# Altium footprint library RC.PcbLib: 47 footprints (part 1 of 3)
Each footprint in its own frame and in the unit in brackets; x right, y up, seen from the top. Pads: shape width x height; smd on the part's side, far side on the other; paste and mask are expansions set on the pad; w line width, h text height; cw(c..) or ccw(c..) is an arc to the next point about the centre after c.
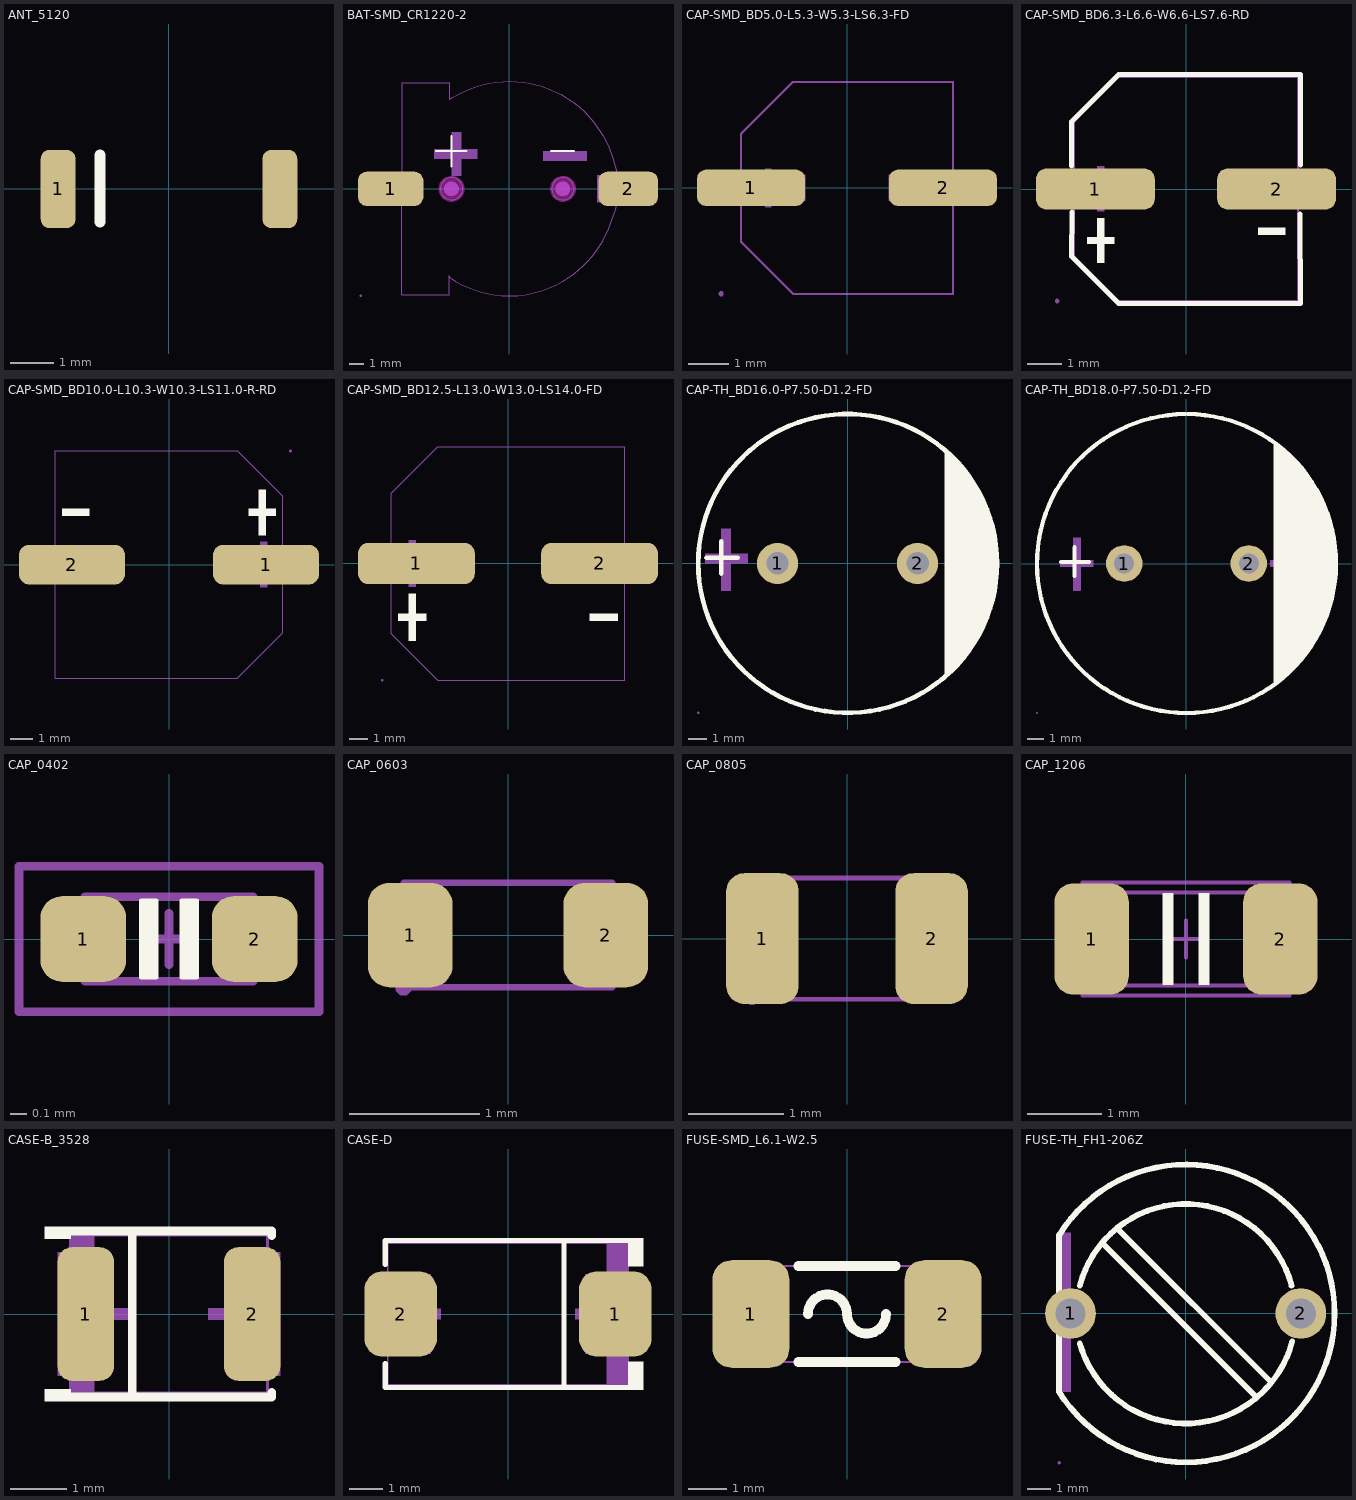
[diagram p0: the footprints below, top view; thin cyan lines are the x and y axes]

## ANT_5120 [mm] "5120贴片陶瓷天线"
height 4.3
pads (2):
  rrect50% 0.8x1.8 smd: 1(-2.54,0) ""(2.563,0)
Top Overlay:
  lines w0.254: -1.575,-0.762 -1.575,0.787
3D body "123.stp": height 1.32, standoff -0.01, extent -2.573,-0.911 2.542,0.935

## BAT-SMD_CR1220-2 [mm]
pads (2):
  rrect50% 4.4x2.3 smd paste+0 mask+0.05: 1(-8,0)
  rrect50% 4x2.3 smd paste+0 mask+0.05: 2(8,0)
Top Overlay:
  lines w0.15: -4.928,2.54 -2.896,2.54 ; -3.912,1.524 -3.912,3.556 ; 2.819,2.54 4.343,2.54
Keep-Out Layer:
  board cut-out: -3.15,0 -3.151,0.098 -3.204,0.287 -3.303,0.456 -3.442,0.594 -3.612,0.691 -3.802,0.741 -3.998,0.741 -4.187,0.691 -4.357,0.594 -4.497,0.456 -4.596,0.287 -4.649,0.098 -4.65,0 -4.649,-0.098 -4.596,-0.287 -4.497,-0.456 -4.357,-0.594 -4.187,-0.691 -3.998,-0.741 -3.802,-0.741 -3.612,-0.691 -3.442,-0.594 -3.303,-0.456 -3.204,-0.287 -3.151,-0.098 -3.15,0
  board cut-out: 4.35,0 4.349,0.098 4.296,0.287 4.197,0.456 4.058,0.594 3.887,0.691 3.698,0.741 3.502,0.741 3.313,0.691 3.142,0.594 3.003,0.456 2.904,0.287 2.851,0.098 2.85,0 2.851,-0.098 2.904,-0.287 3.003,-0.456 3.142,-0.594 3.313,-0.691 3.502,-0.741 3.698,-0.741 3.887,-0.691 4.058,-0.594 4.197,-0.456 4.296,-0.287 4.349,-0.098 4.35,0
Mechanical 1:
  circle w0.025: c-3.9,0 r0.75
  circle w0.025: c3.6,0 r0.75
Mechanical 6:
  circle w0.5: c-3.912,0 r0.25
  circle w0.5: c3.581,0 r0.25
  region: 2.271,2.516 5.192,2.516 5.192,1.881 2.271,1.881
  region: -3.898,0.873 -3.898,3.794 -3.263,3.794 -3.263,0.873
  region: -5.08,2.667 -2.159,2.667 -2.159,2.032 -5.08,2.032
Mechanical 15:
  region: -10.02,0.9 -6.62,0.9 -6.62,-0.9 -10.02,-0.9
  region: 9.32,-0.9 5.92,-0.9 5.92,0.9 9.32,0.9
  region: -9.96,-7.206 -9.96,-7.181 -9.995,-7.146 -10.045,-7.146 -10.08,-7.181 -10.08,-7.206 -10.08,-7.231 -10.045,-7.266 -9.995,-7.266 -9.96,-7.231 -9.96,-7.206
  lines w0.051: -7.227,7.142 -7.227,-0.511 -7.239,-0.523 -7.239,-7.127 -4.064,-7.127 -4.064,-5.857 -4.04,-5.967 -3.896,-6.049 -3.645,-6.212 -3.131,-6.487 -2.614,-6.711 -2.092,-6.898 -1.568,-7.029 -1.045,-7.132 -0.521,-7.188 0.003,-7.206 0.544,-7.183 1.092,-7.119 2.165,-6.879 3.118,-6.481 3.59,-6.24 4.033,-5.951 4.359,-5.715 4.665,-5.454 4.979,-5.172 5.277,-4.874 5.559,-4.55 5.813,-4.226 6.281,-3.543 6.681,-2.672 6.986,-1.838 7.156,-1.399 7.258,-0.92 7.334,-0.461 7.382,-0.006 7.344,0.515 7.241,1.031 6.938,2.064 6.671,2.831 6.281,3.597 5.711,4.465 5.066,5.174 4.691,5.512 4.304,5.829 3.437,6.38 2.616,6.754 2.202,6.897 1.772,7.015 1.359,7.11 0.92,7.185 0.047,7.243 -0.43,7.221 -0.913,7.183 -1.372,7.108 -1.822,7.001 -2.26,6.874 -2.705,6.719 -3.533,6.328 -3.737,6.213 -3.892,6.12 -4.034,6.026 -4.029,6.158 -4.029,7.138 -4.025,7.143 -7.227,7.143 ; -7.227,7.142 -7.227,7.143
Multi-Layer keep-out:
  circle w0.254: c-3.9,0 r0.75
  circle w0.254: c3.6,0 r0.75

## CAP-SMD_BD5.0-L5.3-W5.3-LS6.3-FD [mm]
pads (2):
  rrect50% 2.7x0.91 smd: 1(-2.4,0) 2(2.4,0)
Mechanical 6:
  region: 2.256,0.072 2.256,-0.072 1.68,-0.072 1.68,0.072
  region: -2.256,0.072 -2.256,-0.072 -1.68,-0.072 -1.68,0.072
  region: -2.04,0.48 -2.04,-0.48 -1.896,-0.48 -1.896,0.48
Mechanical 15:
  region: -3.09,-2.65 -3.09,-2.625 -3.125,-2.59 -3.175,-2.59 -3.21,-2.625 -3.21,-2.65 -3.21,-2.675 -3.175,-2.71 -3.125,-2.71 -3.09,-2.675 -3.09,-2.65
  region: -3.15,0.325 -1.05,0.325 -1.05,-0.325 -3.15,-0.325
  region: 3.15,-0.325 1.05,-0.325 1.05,0.325 3.15,0.325
  lines w0.051: -2.65,-1.35 -1.35,-2.65 2.65,-2.65 2.65,2.65 -1.35,2.65 -2.65,1.35 -2.65,-1.35
3D body "CP_Elec_5x5.4.step": height 5.4, standoff 0, extent -3.25,-2.65 3.25,2.65

## CAP-SMD_BD6.3-L6.6-W6.6-LS7.6-RD [mm]
pads (2):
  rrect50% 3.5x1.2 smd paste+0 mask+0.051: 1(-2.67,0) 2(2.67,0)
Top Overlay:
  region: -2.614,-0.858 -2.614,-2.178 -2.416,-2.178 -2.416,-0.858
  region: -2.911,-1.419 -2.911,-1.617 -2.119,-1.617 -2.119,-1.419
  region: 2.921,-1.143 2.921,-1.341 2.129,-1.341 2.129,-1.143
  lines w0.152: -3.376,0.686 -3.376,1.98 -1.98,3.376 3.376,3.376 3.369,0.708 ; -3.362,-0.686 -3.376,-1.981 -1.981,-3.376 3.376,-3.376 3.356,-0.739
Mechanical 6:
  region: -2.41,-0.654 -2.41,0.666 -2.608,0.666 -2.608,-0.654
  region: -1.88,0.099 -3.2,0.099 -3.2,-0.099 -1.88,-0.099
  region: 2.848,0.099 2.848,-0.099 2.056,-0.099 2.056,0.099
Mechanical 15:
  region: 1.4,0.325 3.8,0.325 3.8,-0.325 1.4,-0.325
  region: -3.8,0.325 -1.4,0.325 -1.4,-0.325 -3.8,-0.325
  region: -3.74,-3.3 -3.74,-3.275 -3.775,-3.24 -3.825,-3.24 -3.86,-3.275 -3.86,-3.3 -3.86,-3.325 -3.825,-3.36 -3.775,-3.36 -3.74,-3.325 -3.74,-3.3
  lines w0.051: -3.3,-1.98 -3.3,1.98 -1.98,3.3 3.3,3.3 3.3,-3.3 -1.98,-3.3 -3.3,-1.98

## CAP-SMD_BD10.0-L10.3-W10.3-LS11.0-R-RD [mm]
pads (2):
  rrect50% 4.8x1.8 smd: 1(4.395,0) 2(-4.395,0)
Top Overlay:
  region: 4.378,1.339 4.378,3.399 4.068,3.399 4.068,1.339
  region: 4.841,2.214 4.841,2.523 3.605,2.523 3.605,2.214
  region: -4.841,2.214 -4.841,2.523 -3.605,2.523 -3.605,2.214
Mechanical 6:
  region: 4.445,-1.016 4.445,1.044 4.136,1.044 4.136,-1.016
  region: 4.953,-0.127 4.953,0.182 3.717,0.182 3.717,-0.127
  region: -4.841,-0.155 -4.841,0.155 -3.605,0.155 -3.605,-0.155
Mechanical 15:
  region: 5.5,-0.5 5.5,0.5 2.35,0.5 2.35,-0.5
  region: -5.5,-0.5 -5.5,0.5 -2.35,0.5 -2.35,-0.5
  region: 5.56,5.15 5.56,5.175 5.525,5.21 5.475,5.21 5.44,5.175 5.44,5.15 5.44,5.125 5.475,5.09 5.525,5.09 5.56,5.125 5.56,5.15
  lines w0.051: -5.15,-5.15 3.09,-5.15 5.15,-3.09 5.15,3.09 3.09,5.15 -5.15,5.15 -5.15,-5.15
3D body "CP_Elec_10x10.5.step": height 10.5, standoff 0, extent -6,-5.15 6,5.15

## CAP-SMD_BD12.5-L13.0-W13.0-LS14.0-FD [mm]
pads (2):
  rrect50% 6.5x2.3 smd: 1(-5.1,0) 2(5.1,0)
Top Overlay:
  region: 6.11,-2.795 6.11,-3.185 4.55,-3.185 4.55,-2.795
  region: -6.11,-2.795 -6.11,-3.185 -4.55,-3.185 -4.55,-2.795
  region: -5.525,-1.69 -5.525,-4.29 -5.135,-4.29 -5.135,-1.69
Mechanical 6:
  region: 6.11,0.195 6.11,-0.195 4.55,-0.195 4.55,0.195
  region: -6.11,0.195 -6.11,-0.195 -4.55,-0.195 -4.55,0.195
  region: -5.525,1.3 -5.525,-1.3 -5.135,-1.3 -5.135,1.3
Mechanical 15:
  region: -7,0.475 -2.3,0.475 -2.3,-0.475 -7,-0.475
  region: 2.3,0.475 7,0.475 7,-0.475 2.3,-0.475
  region: -6.94,-6.5 -6.94,-6.475 -6.975,-6.44 -7.025,-6.44 -7.06,-6.475 -7.06,-6.5 -7.06,-6.525 -7.025,-6.56 -6.975,-6.56 -6.94,-6.525 -6.94,-6.5
  lines w0.051: -6.5,-3.9 -6.5,3.9 -3.9,6.5 6.5,6.5 6.5,-6.5 -3.9,-6.5 -6.5,-3.9
3D body "CAP1.step": height 13.5, standoff 0, extent -6.873,-6.475 7.127,6.525

## CAP-TH_BD16.0-P7.50-D1.2-FD [mm]
pads (2):
  round 2.2 hole 1.2: 1(-3.75,0) 2(3.75,0)
Top Overlay:
  circle w0.254: c0,0 r8
  region: 5.207,-6.096 5.535,-5.814 6.126,-5.182 6.646,-4.49 7.089,-3.746 7.449,-2.96 7.724,-2.139 7.908,-1.293 8.001,-0.433 8.001,0.433 7.908,1.293 7.724,2.139 7.449,2.96 7.089,3.746 6.646,4.49 6.126,5.182 5.535,5.814 5.207,6.096
  lines w0.254: -7.553,0.305 -5.877,0.305 ; -6.766,-0.533 -6.766,1.194
Mechanical 6:
  region: 7.7,-0.2 5.414,-0.2 5.414,0.308 7.7,0.308
  region: -6.754,1.851 -6.246,1.851 -6.246,-1.451 -6.754,-1.451
  region: -7.62,0.508 -5.334,0.508 -5.334,0 -7.62,0
Mechanical 15:
  region: -3.35,0 -3.35,0.08 -3.411,0.227 -3.523,0.339 -3.67,0.4 -3.829,0.4 -3.976,0.339 -4.089,0.227 -4.15,0.08 -4.15,0 -4.15,-0.08 -4.089,-0.227 -3.976,-0.339 -3.829,-0.4 -3.67,-0.4 -3.523,-0.339 -3.411,-0.227 -3.35,-0.08 -3.35,0
  region: 4.15,0 4.15,0.08 4.089,0.227 3.976,0.339 3.829,0.4 3.67,0.4 3.523,0.339 3.411,0.227 3.35,0.08 3.35,0 3.35,-0.08 3.411,-0.227 3.523,-0.339 3.67,-0.4 3.829,-0.4 3.976,-0.339 4.089,-0.227 4.15,-0.08 4.15,0
  region: -7.94,-8 -7.94,-7.975 -7.975,-7.94 -8.025,-7.94 -8.06,-7.975 -8.06,-8 -8.06,-8.025 -8.025,-8.06 -7.975,-8.06 -7.94,-8.025 -7.94,-8
  lines w0.051: -8,0 ccw(c0,0) 8,0 ccw(c0,0) -8,0
3D body "1000uF 50V electr 16 x26mm -P.diameter 8mm-Black-White.stp": height 26, standoff -4.1, extent -8,-7.999 8,7.999

## CAP-TH_BD18.0-P7.50-D1.2-FD [mm]
pads (2):
  round 2.2 hole 1.2: 1(-3.75,0) 2(3.75,0)
Top Overlay:
  region: 5.25,-7.25 5.596,-7.005 6.239,-6.451 6.826,-5.838 7.352,-5.171 7.812,-4.458 8.202,-3.704 8.518,-2.917 8.758,-2.103 8.919,-1.269 9,-0.424 9,0.424 8.919,1.269 8.758,2.103 8.518,2.917 8.202,3.704 7.812,4.458 7.352,5.171 6.826,5.838 6.239,6.451 5.596,7.005 5.25,7.25
  lines w0.254: -7.537,0.088 -5.861,0.088 ; -6.75,-0.75 -6.75,0.977 ; -0.079,8.999 ccw(c0,0) 0.079,8.999
Mechanical 6:
  region: 5.05,0.2 7.2,0.2 7.2,-0.2 5.05,-0.2
  region: -6.825,1.55 -6.375,1.55 -6.375,-1.6 -6.375,-1.61 -6.383,-1.628 -6.397,-1.642 -6.415,-1.65 -6.425,-1.65 -6.825,-1.65
  region: -7.6,0.2 -5.6,0.2 -5.6,-0.2 -7.6,-0.2
Mechanical 15:
  region: 4.15,0 4.15,0.08 4.089,0.227 3.976,0.339 3.829,0.4 3.67,0.4 3.523,0.339 3.411,0.227 3.35,0.08 3.35,0 3.35,-0.08 3.411,-0.227 3.523,-0.339 3.67,-0.4 3.829,-0.4 3.976,-0.339 4.089,-0.227 4.15,-0.08 4.15,0
  region: -3.35,0 -3.35,0.08 -3.411,0.227 -3.523,0.339 -3.67,0.4 -3.829,0.4 -3.976,0.339 -4.089,0.227 -4.15,0.08 -4.15,0 -4.15,-0.08 -4.089,-0.227 -3.976,-0.339 -3.829,-0.4 -3.67,-0.4 -3.523,-0.339 -3.411,-0.227 -3.35,-0.08 -3.35,0
  region: -8.94,-9 -8.94,-8.975 -8.975,-8.94 -9.025,-8.94 -9.06,-8.975 -9.06,-9 -9.06,-9.025 -9.025,-9.06 -8.975,-9.06 -8.94,-9.025 -8.94,-9
  lines w0.051: -9,0 ccw(c0,0) 9,0 ccw(c0,0) -9,0

## CAP_0402 [mil] "CAP_0402"
pads (2):
  rrect50% 20x20 smd: 1(-20,0) 2(20,0)
Top Overlay:
  region: -6.5,9 -3,9 -3,-9 -6.5,-9
  region: 6.5,-9 3,-9 3,9 6.5,9
  lines w1: -6.5,-9 -3,-9 -3,9 -6.5,9 -6.5,-9 ; 3,-9 3,9 6.5,9 6.5,-9 3,-9
Mechanical 13:
  lines w2: -6,0 6,0 ; 0,-6 0,6 ; -19.69,-9.84 -19.69,9.84 19.68,9.84 19.68,-9.84 -19.69,-9.84
Mechanical 14:
  lines w2: -35,-17 -35,17 35,17 35,-17 -35,-17
3D body "CAPC1005X05L.step": height 19.68, standoff 0, extent -19.68,-9.84 19.69,9.85

## CAP_0603 [mm]
pads (2):
  rrect50% 0.65x0.8 smd mask+0.051: 1(-0.75,0) 2(0.75,0)
Mechanical 15:
  region: -0.74,-0.4 -0.74,-0.375 -0.775,-0.34 -0.825,-0.34 -0.86,-0.375 -0.86,-0.4 -0.86,-0.425 -0.825,-0.46 -0.775,-0.46 -0.74,-0.425 -0.74,-0.4
  region: 0.8,-0.4 0.8,0.4 0.5,0.4 0.5,-0.4
  region: -0.8,-0.4 -0.8,0.4 -0.5,0.4 -0.5,-0.4
  lines w0.051: -0.8,-0.4 0.8,-0.4 0.8,0.4 -0.8,0.4 -0.8,-0.4
3D body "User Library-Chip Capacitor2.STEP": height 0.78, standoff -0.02, extent -0.8,-0.432 0.8,0.428

## CAP_0805 [mil]
pads (2):
  rrect50% 30x54.21 smd mask+2: 1(-35,0) 2(35,0)
Mechanical 15:
  region: 39.37,-25.1 39.37,25.1 23.62,25.1 23.62,-25.1
  region: -39.37,-25.1 -39.37,25.1 -23.62,25.1 -23.62,-25.1
  region: -37.01,-25.1 -37.01,-24.12 -38.39,-22.74 -40.35,-22.74 -41.73,-24.12 -41.73,-25.1 -41.73,-26.08 -40.35,-27.46 -38.39,-27.46 -37.01,-26.08 -37.01,-25.1
  lines w2: -39.37,-25.1 39.37,-25.1 39.37,25.1 -39.37,25.1 -39.37,-25.1
3D body "CAPC-0805-T0.95-BN.stp": height 37.4, standoff 0, extent -41.33,-26.58 41.34,26.58

## CAP_1206 [mm] "CAP_1206"
pads (2):
  rrect50% 1x1.5 smd: 1(-1.27,0) 2(1.27,0)
Top Overlay:
  region: -0.305,0.61 -0.178,0.61 -0.178,-0.61 -0.305,-0.61
  region: 0.305,-0.61 0.178,-0.61 0.178,0.61 0.305,0.61
  lines w0.025: -0.305,-0.61 -0.178,-0.61 -0.178,0.61 -0.305,0.61 -0.305,-0.61 ; 0.178,-0.61 0.178,0.61 0.305,0.61 0.305,-0.61 0.178,-0.61
Mechanical 13:
  lines w0.051: -0.254,0 0.254,0 ; 0,-0.254 0,0.254 ; -1,-0.625 -1,0.625 1,0.625 1,-0.625 -1,-0.625
Mechanical 14:
  lines w0.051: -1.397,-0.762 -1.397,0.762 1.397,0.762 1.397,-0.762 -1.397,-0.762
3D body "(未保存).step": height 1.5, standoff 0, extent -1.5,-0.75 1.5,0.75

## CASE-B_3528 [mm]
pads (2):
  rrect50% 0.998x2.376 smd mask+0.051: 1(-1.48,0) 2(1.48,0)
Top Overlay:
  region: -1.75,1.552 -1.75,1.34 -2.207,1.34 -2.207,1.552
  region: -1.75,-1.552 -1.75,-1.34 -2.207,-1.34 -2.207,-1.552
  lines w0.152: -1.826,-1.476 1.826,-1.476 1.826,-1.391 ; -1.826,1.476 1.826,1.476 1.826,1.391 ; -0.65,-1.476 -0.65,1.476
Mechanical 6:
  region: -1.75,-1.4 -1.75,-0.7 -1.33,-0.7 -1.33,-1.4
  region: -1.75,1.4 -1.75,0.7 -1.33,0.7 -1.33,1.4
  region: -1.225,0.7 -1.225,-0.7 -1.015,-0.7 -1.015,0.7
  region: -1.54,0.105 -1.54,-0.105 -0.7,-0.105 -0.7,0.105
  region: 1.54,0.105 1.54,-0.105 0.7,-0.105 0.7,0.105
Mechanical 15:
  region: -1.98,1.1 -1.98,-1.1 -1.28,-1.1 -1.28,1.1
  region: 1.98,1.1 1.98,-1.1 1.28,-1.1 1.28,1.1
  region: -1.92,-1.4 -1.92,-1.375 -1.955,-1.34 -2.005,-1.34 -2.04,-1.375 -2.04,-1.4 -2.04,-1.425 -2.005,-1.46 -1.955,-1.46 -1.92,-1.425 -1.92,-1.4
  lines w0.051: -1.75,-1.4 -1.75,1.4 1.75,1.4 1.75,-1.4 -1.75,-1.4
3D body "Tant Cap SMD size B _ 3528-21.stp": height 1.94, standoff 0.01, extent -1.73,-1.4 1.73,1.4

## CASE-D [mm]
pads (2):
  rrect50% 2.207x2.592 smd mask+0.051: 1(3.257,0) 2(-3.257,0)
Top Overlay:
  region: 3.65,-2.302 3.65,-1.448 4.107,-1.448 4.107,-2.302
  region: 3.65,2.302 3.65,1.448 4.107,1.448 4.107,2.302
  lines w0.152: -3.726,-1.499 -3.726,-2.226 3.726,-2.226 ; -3.726,1.499 -3.726,2.226 3.726,2.226 ; 1.696,-2.226 1.696,2.226
Mechanical 6:
  region: 3.65,2.15 3.65,1.075 3.005,1.075 3.005,2.15
  region: 3.65,-2.15 3.65,-1.075 3.005,-1.075 3.005,-2.15
  region: 2.844,-1.075 2.844,1.075 2.521,1.075 2.521,-1.075
  region: 3.328,-0.161 3.328,0.161 2.038,0.161 2.038,-0.161
  region: -3.328,-0.161 -3.328,0.161 -2.038,0.161 -2.038,-0.161
Mechanical 15:
  region: 3.65,-1.2 3.65,1.2 2.35,1.2 2.35,-1.2
  region: -3.65,-1.2 -3.65,1.2 -2.35,1.2 -2.35,-1.2
  region: 3.71,2.12 3.71,2.145 3.675,2.18 3.625,2.18 3.59,2.145 3.59,2.12 3.59,2.095 3.625,2.06 3.675,2.06 3.71,2.095 3.71,2.12
  lines w0.051: -3.65,-2.15 3.65,-2.15 3.65,2.15 -3.65,2.15 -3.65,-2.15

## FUSE-SMD_L6.1-W2.5 [mm]
pads (2):
  rrect50% 2x2.8 smd mask+0.051: 1(-2.5,0) 2(2.5,0)
Top Overlay:
  lines w0.254: -1.269,-1.25 1.269,-1.25 ; -1.269,1.25 1.269,1.25 ; -1.016,0 cw(c-0.508,0) 0,0 ccw(c0.508,0) 1.016,0
Mechanical 15:
  region: -2.993,1.256 -2.993,1.281 -3.029,1.316 -3.078,1.316 -3.113,1.281 -3.113,1.256 -3.113,1.231 -3.078,1.196 -3.029,1.196 -2.993,1.231 -2.993,1.256
  region: -3.05,1.25 -1.65,1.25 -1.65,-1.25 -3.05,-1.25
  region: 1.65,1.25 3.05,1.25 3.05,-1.25 1.65,-1.25
  lines w0.051: -3.05,-1.25 -3.05,1.25 3.05,1.25 3.05,-1.25 -3.05,-1.25

## FUSE-TH_FH1-206Z [mm]
pads (2):
  round 2.2 hole 1.3 paste-2539.97 mask+0.05: 1(-5,0) 2(5,0)
Top Overlay:
  lines w0.254: -5.5,3.4 -5.5,-3.4 ccw(c0,0) -5.489,3.418 ; -4.6,-1.3 ccw(c0,0) 4.625,-1.207 ; -4.6,1.2 cw(c0,0) 4.6,1.2 ; -3.632,3.067 3.083,-3.647 3.083,-3.653 ; -2.979,3.705 3.686,-2.96 3.686,-3.044
Mechanical 6:
  region: -5.5,3.5 -5,3.5 -5,-3.4 -5.5,-3.4
Mechanical 15:
  region: -5.434,-6.479 -5.434,-6.454 -5.469,-6.419 -5.519,-6.419 -5.554,-6.454 -5.554,-6.479 -5.554,-6.504 -5.519,-6.539 -5.469,-6.539 -5.434,-6.504 -5.434,-6.479
  region: -5.15,0.5 -4.85,0.5 -4.85,-0.5 -5.15,-0.5
  region: 4.85,0.5 5.15,0.5 5.15,-0.5 4.85,-0.5
  lines w0.051: -5.494,-3.455 -4.925,-4.226 -4.219,-4.951 -3.335,-5.571 -2.437,-6.028 -1.463,-6.329 -0.461,-6.475 0.578,-6.479 1.543,-6.319 2.54,-5.99 3.41,-5.548 4.247,-4.941 4.953,-4.236 5.569,-3.375 6.025,-2.486 6.322,-1.55 6.491,-0.524 6.482,0.562 6.336,1.494 6.021,2.495 5.569,3.37 4.953,4.236 4.247,4.941 3.942,5.167 3.42,5.539 2.521,5.99 1.613,6.301 0.574,6.489 -0.005,6.484 -0.467,6.483 -1.449,6.327 -2.421,6.032 -3.335,5.575 -4.161,4.989 -4.93,4.234 -5.492,3.465 -5.494,-3.455